# EAGLE library part AMPHENOL_NPA201 (library Sombeck_lib)
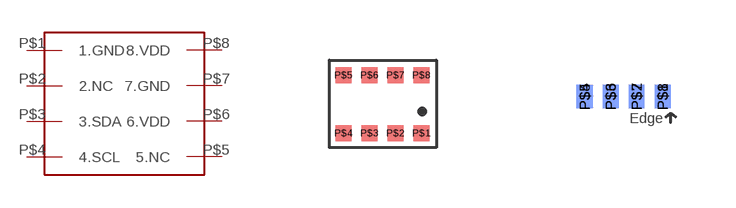
[diagram p2: symbol with the pads of AMPHENOL_NPA201; footprints AMPHENOL_NPA201, AMPHENOL_NPA201_EDGEMOUNT]

Designator prefix -

## AMPHENOL_NPA201  [AMPHENOL_NPA201]
P$1  1.GND
P$2  2.NC
P$3  3.SDA
P$4  4.SCL
P$5  5.NC
P$6  6.VDD
P$7  7.GND
P$8  8.VDD

## AMPHENOL_NPA201EDGEMOUNT  [AMPHENOL_NPA201_EDGEMOUNT]
Pads as for AMPHENOL_NPA201

## Footprint AMPHENOL_NPA201 (pad centres in mm)
smd 0.4 x 0.4: P$1 0.975,-0.725; P$2 0.325,-0.725; P$3 -0.325,-0.725; P$4 -0.975,-0.725; P$5 -0.975,0.725; P$6 -0.325,0.725; P$7 0.325,0.725; P$8 0.975,0.725

## Footprint AMPHENOL_NPA201_EDGEMOUNT (pad centres in mm)
smd 0.4 x 0.6: P$1 0.975,-0.725; P$2 0.325,-0.725; P$3 -0.325,-0.725; P$4 -0.975,-0.725
smd 0.4 x 0.6 bottom: P$5 -0.975,-0.725; P$6 -0.325,-0.725; P$7 0.325,-0.725; P$8 0.975,-0.725